# EAGLE library part DUAL_NAND (library pnc_probe)
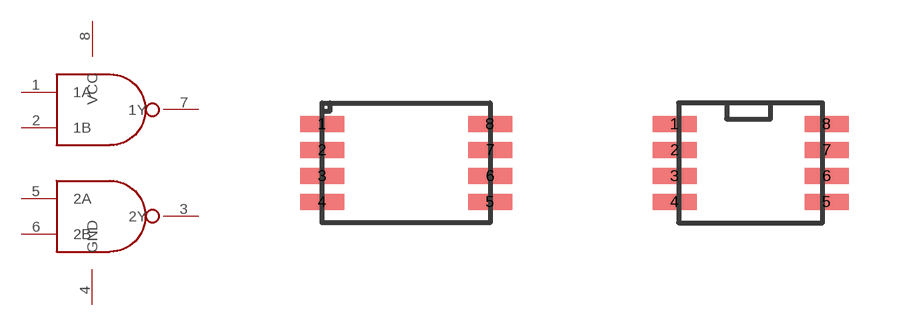
[diagram p0: symbol with the pads of VSSOP8; footprints VSSOP8, SSOP8]

Designator prefix -

## DUAL_NAND_VSSOP8  [VSSOP8]
1  1A
2  1B
3  2Y
4  GND
5  2A
6  2B
7  1Y
8  VCC

## DUAL_NAND_SSOP8  [SSOP8]
Pads as for VSSOP8

## Footprint VSSOP8 (pad centres in mm)
smd 1.1 x 0.4: 1 -2.1,0.975; 2 -2.1,0.325; 3 -2.1,-0.325; 4 -2.1,-0.975; 5 2.1,-0.975; 6 2.1,-0.325; 7 2.1,0.325; 8 2.1,0.975

## Footprint SSOP8 (pad centres in mm)
smd 1.1 x 0.4: 1 -1.9,0.975; 2 -1.9,0.325; 3 -1.9,-0.325; 4 -1.9,-0.975; 5 1.9,-0.975; 6 1.9,-0.325; 7 1.9,0.325; 8 1.9,0.975